# Altium integrated library P78E05-1000.IntLib: 1 symbol
Pins are listed as number, name and electrical type; pins without a type are passive.

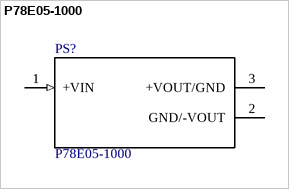
[diagram p0: symbol P78E05-1000]

## P78E05-1000
designator PS?
Value: *
footprint *CONV_P78E05-1000
pins: 1 +VIN (in), 2 GND/-VOUT (power), 3 +VOUT/GND (power)